# Altium footprint library PcbLib1.PcbLib: 9 footprints
Each footprint in its own frame and in the unit in brackets; x right, y up, seen from the top. Pads: shape width x height; smd on the part's side, far side on the other; paste and mask are expansions set on the pad; w line width, h text height; cw(c..) or ccw(c..) is an arc to the next point about the centre after c.
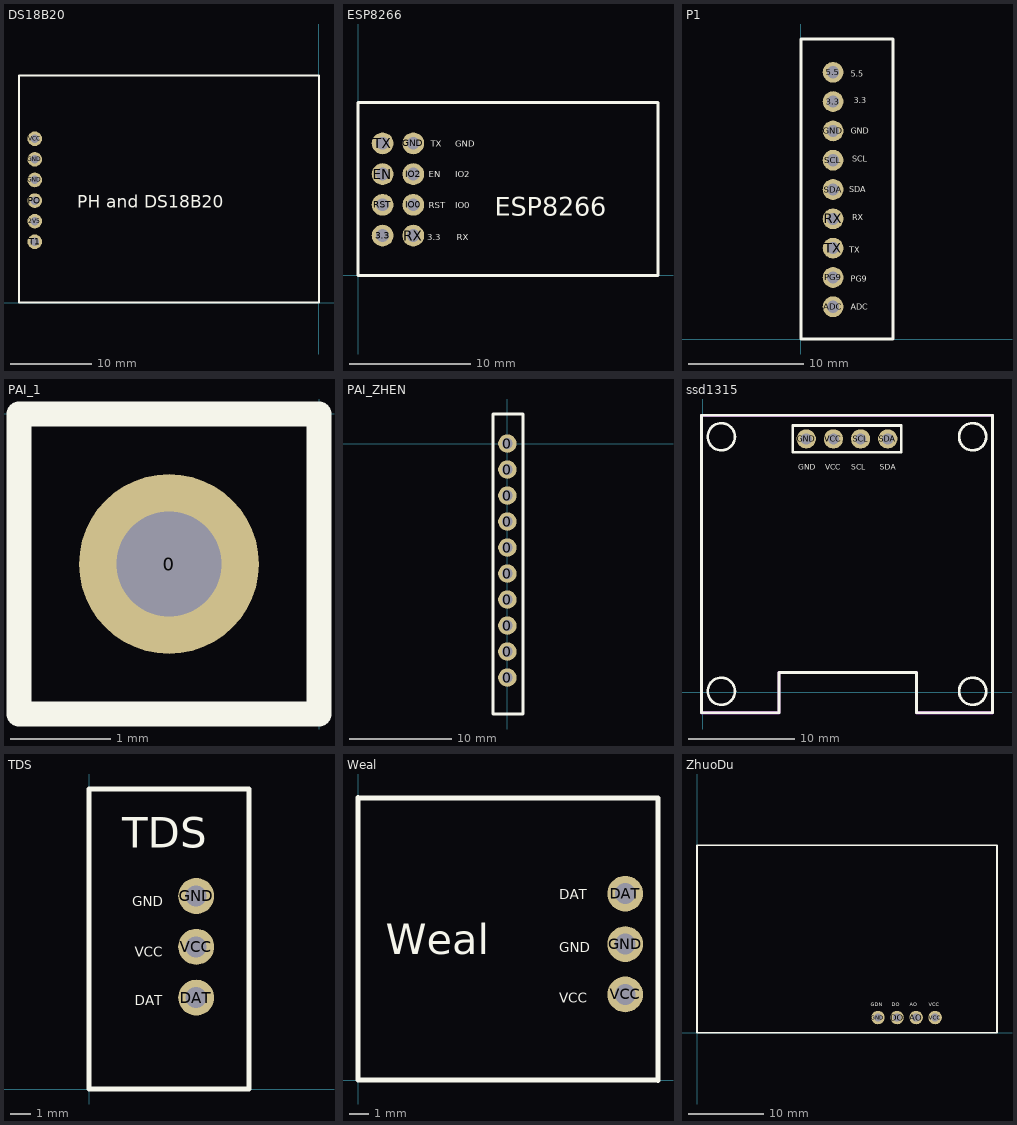
[diagram p0: the footprints below, top view; thin cyan lines are the x and y axes]

## DS18B20 [mm]
pads (6):
  round 1.8 hole 1.05: 2V5(-35.052,10.033) GND(-35.052,15.113) GND(-35.052,17.653) PO(-35.052,12.573) T1(-35.052,7.493) VCC(-35.052,20.193)
Top Overlay:
  lines w0.254: -37,0 0,0 0,28 -37,28 -37,0
  text "PH and DS18B20" at -29.845,11.684 h1.52

## ESP8266 [mm]
pads (8):
  round 1.8 hole 1.05: 3.3(2.032,3.302) EN(2.032,8.382) GND(4.572,10.922) IO0(4.572,5.842) IO2(4.572,8.382) RST(2.032,5.842) RX(4.572,3.302) TX(2.032,10.922)
Top Overlay:
  lines w0.254: 0,0 0,14.3 24.8,14.3 24.8,0 0,0
  text "RX" at 8.155,2.908 h0.5
  text "3.3" at 5.742,2.908 h0.5
  text "IO0" at 8.028,5.575 h0.5
  text "RST" at 5.869,5.575 h0.5
  text "IO2" at 8.028,8.115 h0.5
  text "EN" at 5.869,8.115 h0.5
  text "GND" at 8.028,10.655 h0.5
  text "TX" at 5.996,10.655 h0.5
  text "ESP8266" at 11.303,4.953 h1.52

## P1 [mm]
pads (9):
  round 1.8 hole 1.05: 3.3(2.794,20.574) 5.5(2.794,23.114) ADC(2.794,2.794) GND(2.794,18.034) PG9(2.794,5.334) RX(2.794,10.414) SCL(2.794,15.494) SDA(2.794,12.954) TX(2.794,7.874)
Top Overlay:
  lines w0.254: 0,0 8,0 8,26 0,26 0,0
  text "ADC" at 4.318,2.54 h0.5
  text "PG9" at 4.318,4.953 h0.5
  text "TX" at 4.191,7.493 h0.5
  text "RX" at 4.445,10.287 h0.5
  text "SDA" at 4.191,12.7 h0.5
  text "SCL" at 4.445,15.367 h0.5
  text "GND" at 4.318,17.78 h0.5
  text "3.3" at 4.572,20.447 h0.5
  text "5.5" at 4.345,22.72 h0.5

## PAI_1 [mm]
pads (1):
  round 1.8 hole 1.05: 0(-1.5,-1.5)
Top Overlay:
  lines w0.254: -3,-3 -3,0 0,0 0,-3 -3,-3

## PAI_ZHEN [mm]
pads (10):
  round 1.8 hole 1.05: 0(0,-22.86) 0(0,-20.32) 0(0,-17.78) 0(0,-15.24) 0(0,-12.7) 0(0,-10.16) 0(0,-7.62) 0(0,-5.08) 0(0,-2.54) 0(0,0)
Top Overlay:
  lines w0.254: -1.397,-26.416 -1.397,2.886 1.524,2.886 1.524,-26.416 -1.397,-26.416

## ssd1315 [mm]
pads (4):
  round 1.8 hole 1.05 paste+0 mask+0.05: GND(9.663,23.695) SCL(14.743,23.695) SDA(17.283,23.695) VCC(12.203,23.695)
Top Overlay:
  circle w0.254: c1.723,23.895 r1.27
  circle w0.254: c25.223,23.895 r1.27
  circle w0.254: c25.223,0.095 r1.27
  circle w0.254: c1.723,0.095 r1.27
  lines w0.254: -0.126,-1.906 7.123,-1.906 7.123,1.846 19.973,1.846 19.973,-1.906 27.072,-1.906 27.072,25.895 -0.126,25.895 -0.126,-1.906 ; 8.393,22.445 8.393,24.945 18.553,24.945 18.553,22.445 8.393,22.445
  text "SDA" at 16.537,20.815 h0.5
  text "SCL" at 13.87,20.815 h0.5
  text "VCC" at 11.457,20.815 h0.5
  text "GND" at 8.917,20.815 h0.5
Mechanical 6:
  region: 19.973,-2.032 19.948,-2.032 19.901,-2.013 19.865,-1.977 19.846,-1.93 19.846,-1.905 19.846,1.718 7.25,1.718 7.25,-1.905 7.25,-1.93 7.231,-1.977 7.195,-2.013 7.148,-2.032 7.123,-2.032 -0.127,-2.032 -0.152,-2.032 -0.199,-2.013 -0.235,-1.977 -0.254,-1.93 -0.254,-1.905 -0.254,25.895 -0.254,25.92 -0.235,25.967 -0.199,26.003 -0.152,26.022 -0.127,26.022 -0.102,26.022 -0.055,26.003 -0.019,25.967 0,25.92 0,25.895 0,-1.778 6.996,-1.778 6.996,1.845 6.996,1.87 7.015,1.917 7.051,1.953 7.098,1.972 7.123,1.972 19.973,1.972 19.998,1.972 20.045,1.953 20.081,1.917 20.1,1.87 20.1,1.845 20.1,-1.778 26.946,-1.778 26.946,25.895 26.946,25.92 26.965,25.967 27.001,26.003 27.048,26.022 27.073,26.022 27.098,26.022 27.145,26.003 27.181,25.967 27.2,25.92 27.2,25.895 27.2,-1.905 27.2,-1.93 27.181,-1.977 27.145,-2.013 27.098,-2.032 27.073,-2.032
  region: 27.073,25.768 -0.127,25.768 -0.18,25.768 -0.254,25.842 -0.254,25.948 -0.18,26.022 -0.127,26.022 27.073,26.022 27.126,26.022 27.2,25.948 27.2,25.842 27.126,25.768
Mechanical 15:
  region: -0.066,-1.906 -0.066,-1.881 -0.101,-1.846 -0.151,-1.846 -0.186,-1.881 -0.186,-1.906 -0.186,-1.931 -0.151,-1.966 -0.101,-1.966 -0.066,-1.931
  region: 16.963,24.015 17.603,24.015 17.603,23.375 16.963,23.375
  region: 14.423,24.015 15.063,24.015 15.063,23.375 14.423,23.375
  region: 11.883,24.015 12.523,24.015 12.523,23.375 11.883,23.375
  region: 9.343,24.015 9.983,24.015 9.983,23.375 9.343,23.375
  lines w0.051: -0.126,-1.906 7.123,-1.906 7.123,1.846 19.973,1.846 19.973,-1.906 27.072,-1.906 27.072,25.895 -0.126,25.895 -0.126,-1.906

## TDS [mm]
pads (3):
  round 1.8 hole 1.05: DAT(5.361,4.57) GND(5.361,9.65) VCC(5.361,7.11)
Top Overlay:
  lines w0.254: 0,0 0,15 8,15 8,0 0,0
  text "TDS" at 1.651,12.065 h1.52
  text "DAT" at 2.286,4.191 h0.5
  text "VCC" at 2.286,6.604 h0.5
  text "GND" at 2.159,9.144 h0.5

## Weal [mm]
pads (3):
  round 1.8 hole 1.05: DAT(13.462,9.398) GND(13.462,6.858) VCC(13.462,4.318)
Top Overlay:
  lines w0.254: 0,14.23 0,0 15.1,0 ; 0.013,14.224 15.113,14.224 15.113,-0.006
  text "Weal" at 1.397,6.35 h1.52
  text "DAT" at 10.128,9.106 h0.5
  text "VCC" at 10.128,3.899 h0.5
  text "GND" at 10.128,6.439 h0.5

## ZhuoDu [mm]
pads (4):
  round 1.8 hole 1.05: AO(29.21,2.032) DO(26.67,2.032) GND(24.13,2.032) VCC(31.75,2.032)
Top Overlay:
  lines w0.254: 0,0 40,0 40,25 0,25 0,0
  text "VCC" at 30.888,3.543 h0.5
  text "AO" at 28.348,3.543 h0.5
  text "DO" at 25.935,3.543 h0.5
  text "GDN" at 23.141,3.543 h0.5